# Altium footprint library Altium Example Master PCB Library End.PcbLib: 217 footprints (part 2 of 14)
Each footprint in its own frame and in the unit in brackets; x right, y up, seen from the top. Pads: shape width x height; smd on the part's side, far side on the other; paste and mask are expansions set on the pad; w line width, h text height; cw(c..) or ccw(c..) is an arc to the next point about the centre after c.
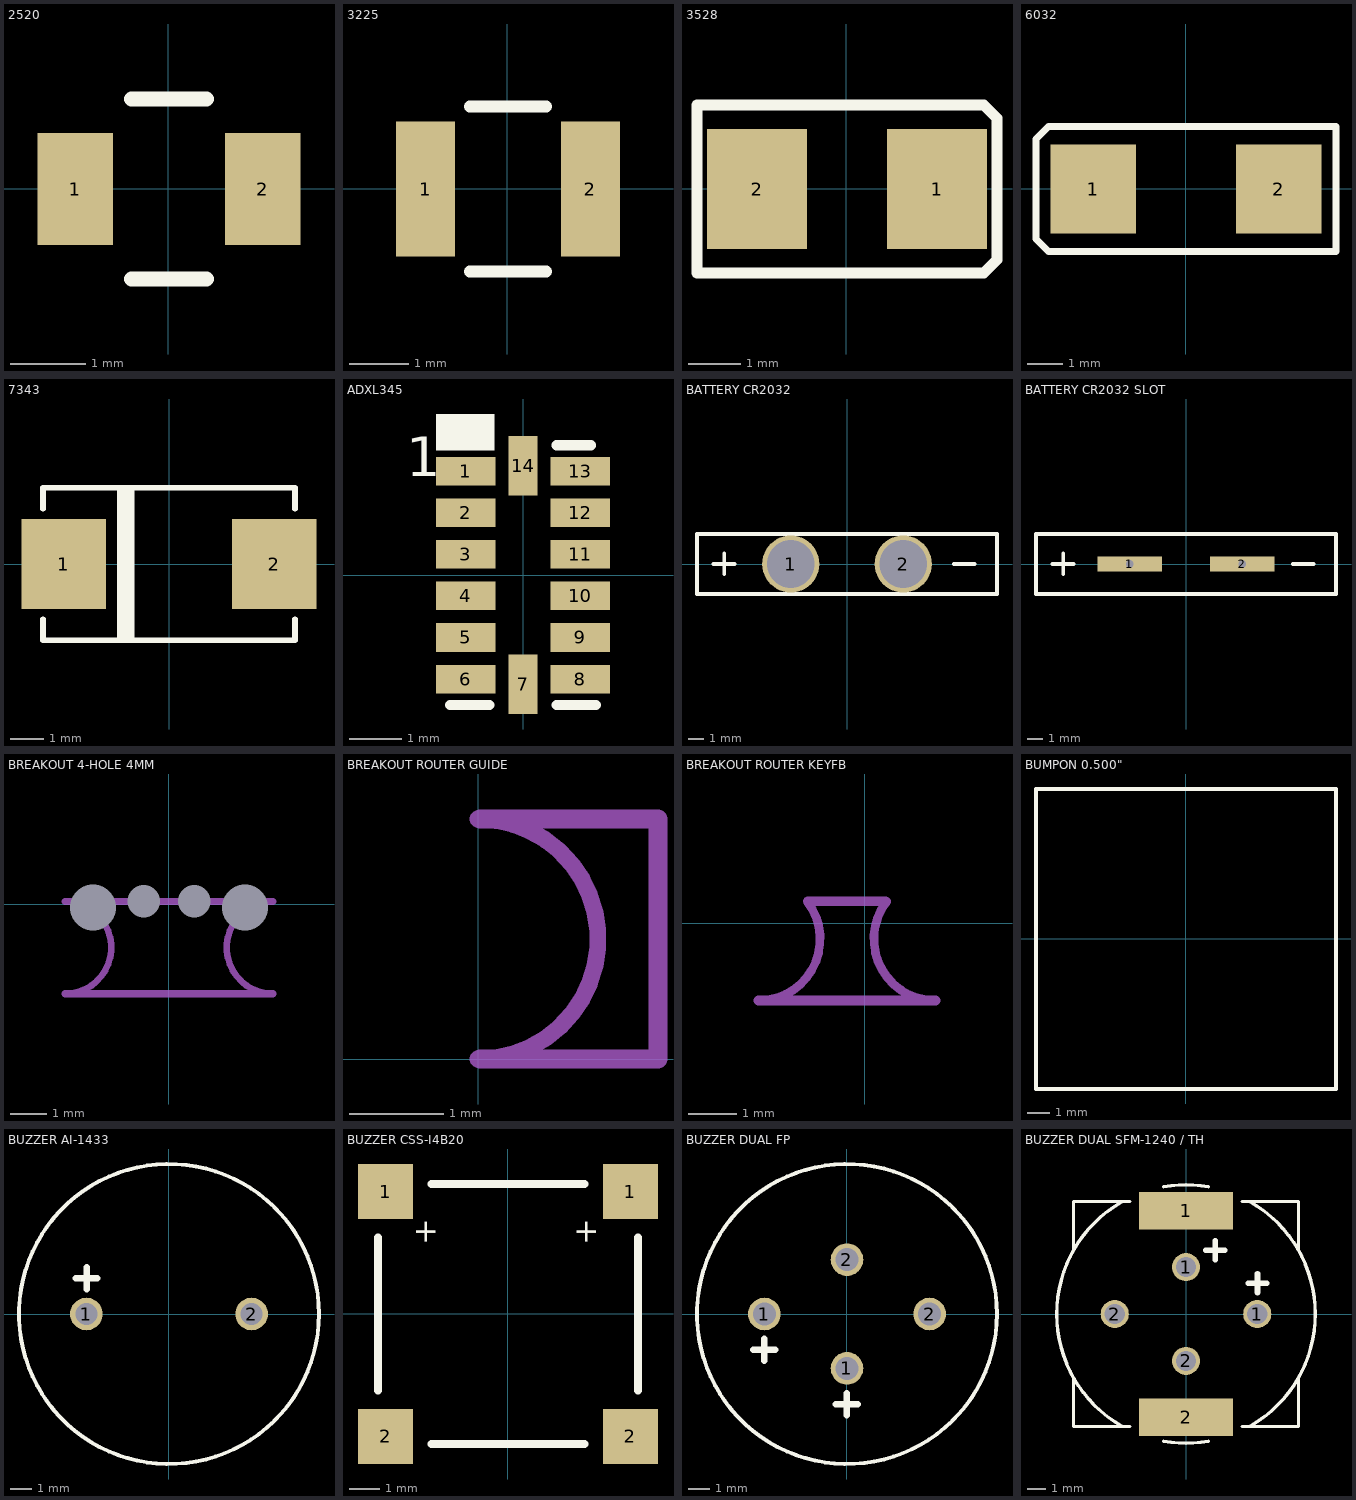
[diagram p1: the footprints below, top view; thin cyan lines are the x and y axes]

## 2520 [mm]
pads (2):
  rect 1x1.5 smd: 1(-1.239,-0.003) 2(1.261,-0.003)
Top Overlay:
  lines w0.2: -0.489,-1.203 0.51,-1.203 ; -0.489,1.197 0.51,1.197

## 3225 [mm]
pads (2):
  rect 1x2.3 smd: 1(-1.389,-0.003) 2(1.411,-0.003)
Top Overlay:
  lines w0.203: -0.64,-1.403 0.661,-1.403 ; -0.64,1.397 0.661,1.397

## 3528 [mil]
pads (2):
  rect 75x90 smd: 1(67.91,-0.13) 2(-67.09,-0.13)
Top Overlay:
  lines w8: -112.09,-63.12 27.91,-63.12 102.91,-63.12 112.91,-53.12 112.91,52.87 102.91,62.87 27.91,62.87 -112.09,62.87 -112.09,-63.12

## 6032 [mm]
pads (2):
  rect 2.4x2.5 smd: 1(-2.589,-0.003) 2(2.61,-0.003)
Top Overlay:
  lines w0.203: -4.189,-1.403 -4.189,1.397 -3.839,1.747 4.21,1.747 4.21,-1.753 -3.839,-1.753 -4.189,-1.403

## 7343 [mm]
pads (2):
  rect 2.55x2.7 smd: 1(-3.175,0) 2(3.175,0)
Top Overlay:
  rectangle: -1.575,-2.3 -1.041,2.3
  lines w0.178: -3.8,-1.666 -3.8,-2.3 3.8,-2.3 3.8,-1.666 ; -3.8,1.666 -3.8,2.3 3.8,2.3 3.8,1.666 ; -1.27,-2.3 -1.27,2.3

## ADXL345 [mm]
pads (14):
  rect 1.145x0.55 smd: 1(-1.1,2) 2(-1.1,1.2) 3(-1.1,0.4) 4(-1.1,-0.4) 5(-1.1,-1.2) 6(-1.1,-2) 8(1.1,-2) 9(1.1,-1.2) 10(1.1,-0.4) 11(1.1,0.4) 12(1.1,1.2) 13(1.1,2)
  rect 0.55x1.145 smd: 7(0,-2.1) 14(0,2.1)
Top Overlay:
  rectangle: -1.675,2.4 -0.55,3.1
  lines w0.2: -1.4,-2.5 -0.65,-2.5 ; -1.3,2.5 -0.65,2.5 ; 0.65,-2.5 1.4,-2.5 ; 0.65,2.5 1.3,2.5
  text "1" at -2.25,1.9 h0.76

## BATTERY CR2032 [mil]
pads (2):
  round 150 hole 125: 1(-147.5,0) 2(147.5,0)
Top Overlay:
  lines w10: -350,0 -295,0 ; -322,-27 -322,28 ; 280,0 335,0 ; -393.7,-78.74 -393.7,78.74 393.7,78.74 393.7,-78.74 -393.7,-78.74

## BATTERY CR2032 SLOT [mil]
pads (2):
  rect 170x40 hole 20: 1(-147.5,0) 2(147.5,0)
Top Overlay:
  lines w10: -350,0 -295,0 ; -322,-27 -322,28 ; 280,0 335,0 ; -393.7,-78.74 393.7,-78.74 393.7,78.74 -393.7,78.74 -393.7,-78.74
Mechanical 1:
  rectangle: -222.44,-9.84 -71.85,9.84
  rectangle: 72.56,-9.84 223.15,9.84

## BREAKOUT 4-HOLE 4MM [mil]
pads (4):
  round 32 hole 50 paste+0 mask+0: ""(-82.5,-3.25) ""(82.5,-3.25)
  round 32 hole 35 paste+0 mask+0: ""(-27.5,3.25) ""(27.5,3.25)
Mechanical 1:
  lines w7: -112.5,-96.75 ccw(c-112.5,-46.75) -112.5,3.25 ; 112.5,-96.75 cw(c112.5,-46.75) 112.5,3.25
  lines w7.87: -112.5,-96.75 112.5,-96.75 ; -112.5,3.25 112.5,3.25

## BREAKOUT ROUTER GUIDE [mm]
Mechanical 1:
  lines w0.178: 0,0 ccw(c0,1.27) 0,2.54
  lines w0.2: 0.022,0.001 1.905,0 1.905,2.54 0.022,2.541

## BREAKOUT ROUTER KEYFB [mm]
Mechanical 1:
  lines w0.178: -2.185,-1.599 ccw(c-2.185,-0.329) -1.181,0.448 ; 0.456,0.445 ccw(c1.463,-0.329) 1.463,-1.599
  lines w0.2: -2.185,-1.599 1.463,-1.599 ; -1.167,0.449 0.433,0.449

## BUMPON 0.500" [mm]
Top Overlay:
  lines w0.178: -6.604,-6.604 -6.604,6.604 6.604,6.604 6.604,-6.604 -6.604,-6.604

## BUZZER AI-1433 [mm]
pads (2):
  round 1.5 hole 1: 1(-3.8,0) 2(3.8,0)
Top Overlay:
  circle w0.178: c0,0 r6.9
  lines w0.3: -4.29,1.65 -3.29,1.65 ; -3.79,1.15 -3.79,2.15

## BUZZER CSS-I4B20 [mm]
pads (4):
  rect 1.8x1.8 smd: 1(-3.989,3.997) 1(4.01,3.997) 2(-3.989,-4.003) 2(4.01,-4.003)
Top Overlay:
  lines w0.254: -4.239,-2.503 -4.239,2.497 ; -2.489,-4.253 2.511,-4.253 ; -2.489,4.247 0.011,4.247 2.511,4.247 ; 4.26,-2.503 4.26,2.497
  text "+" at -2.99,2.247 h0.76
  text "+" at 2.261,2.247 h0.76

## BUZZER DUAL FP [mm]
pads (4):
  round 1.5 hole 1.067: 1(-3.8,0) 1(0,-2.5) 2(0,2.5) 2(3.8,0)
Top Overlay:
  circle w0.178: c0,0 r6.9
  lines w0.3: -4.31,-1.65 -3.31,-1.65 ; -3.81,-2.15 -3.81,-1.15 ; -0.51,-4.15 0.49,-4.15 ; -0.01,-4.65 -0.01,-3.65

## BUZZER DUAL SFM-1240 / TH [mm]
pads (6):
  round 1.5 hole 1.067: 1(0,2.5) 1(3.8,0) 2(-3.8,0) 2(0,-2.5)
  rect 5x2 smd: 1(0,5.5) 2(0,-5.5)
Top Overlay:
  lines w0.178: -6,-3.4 -6,-6 -3,-6 ; -6,3.4 -6,6 -3,6 ; -3.438,5.973 ccw(c0,0) -3.43,-5.978 ; -1.197,-6.787 ccw(c0,0) 1.197,-6.787 ; -1.197,6.787 cw(c0,0) 1.197,6.787 ; 3,-6 6,-6 6,-3.4 ; 3,6 6,6 6,3.4 ; 3.43,5.978 cw(c0,0) 3.438,-5.973
  lines w0.3: 1.06,3.4 2.06,3.4 ; 1.56,2.9 1.56,3.9 ; 3.31,1.65 4.31,1.65 ; 3.81,1.15 3.81,2.15